# EAGLE library part 2SW (library 2SW)
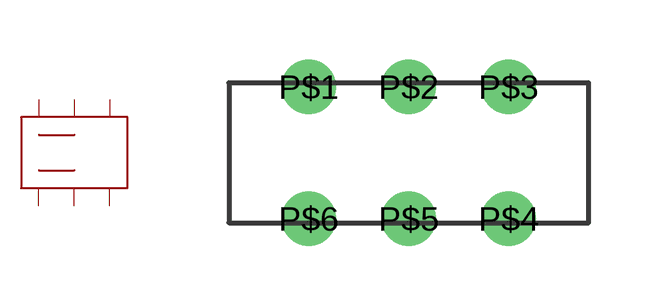
[diagram p0: symbol with the pads of 2SW; footprint 2SW]

Designator prefix -

## 2SW  [2SW]
P$1  P$1
P$2  P$2
P$3  P$3
P$4  P$6
P$5  P$5
P$6  P$4

## Footprint 2SW (pad centres in mm)
drill 0.85: P$1 -2.5,1.65; P$2 0,1.65; P$3 2.5,1.65; P$4 2.5,-1.65; P$5 0,-1.65; P$6 -2.5,-1.65